# Altium footprint library Tu dien.PcbLib: 68 footprints (part 5 of 5)
Each footprint in its own frame and in the unit in brackets; x right, y up, seen from the top. Pads: shape width x height; smd on the part's side, far side on the other; paste and mask are expansions set on the pad; w line width, h text height; cw(c..) or ccw(c..) is an arc to the next point about the centre after c.
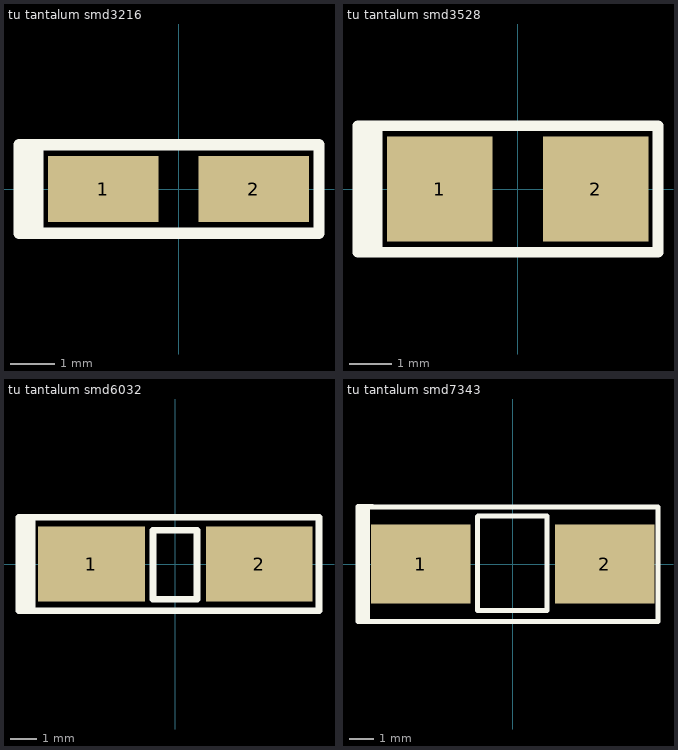
[diagram p4: the footprints below, top view; thin cyan lines are the x and y axes]

## tu tantalum smd3216 [mm]
pads (2):
  rect 2.5x1.5 smd: 1(-1.7,0) 2(1.7,0)
Top Overlay:
  lines w0.254: -3.607,-1 -3.607,1 ; -3.556,-1 3.175,-1 3.175,1 -3.556,1 ; -3.378,-1 -3.378,1 ; -3.175,-1 -3.175,1
3D body "CAP_TANT_3216-18.step": height 1.69, standoff -0.01, extent -1.7,-0.9 1.7,0.9

## tu tantalum smd3528 [mm]
pads (2):
  rect 2.5x2.5 smd: 1(-1.85,0) 2(1.85,0)
Top Overlay:
  lines w0.254: -3.785,-1.5 -3.785,1.5 ; -3.785,-1.499 -3.2,-1.499 ; -3.785,1.499 -3.251,1.499 ; -3.556,-1.5 -3.556,1.5 ; -3.327,-1.5 -3.327,1.5 3.327,1.5 3.327,-1.5 -3.327,-1.5
3D body "CAP_TANT_3528.step": height 2.03, standoff 0, extent -1.85,-1.465 1.85,1.465

## tu tantalum smd6032 [mm]
pads (2):
  rect 4x2.8 smd: 1(-3.15,0) 2(3.15,0)
Top Overlay:
  lines w0.254: -5.867,-1.753 -5.486,-1.753 ; -5.867,-1.75 -5.867,1.75 ; -5.867,1.753 -5.563,1.753 ; -5.613,-1.75 -5.613,1.75 ; -5.563,-1.75 5.385,-1.75 5.385,1.75 -5.563,1.75 ; -5.385,-1.75 -5.385,1.75 ; -0.838,-1.321 0.813,-1.321 0.813,1.27 -0.838,1.27 -0.838,-1.321
3D body "CAP_TANT_6032-28_y.step": height 2.79, standoff -0.01, extent -3.15,-1.75 3.15,1.75

## tu tantalum smd7343 [mm]
pads (2):
  rect 4x3.2 smd: 1(-3.7,0) 2(3.7,0)
Top Overlay:
  lines w0.2: -6.231,2.3 -6.231,-2.311 -5.85,-2.311 ; -6.223,2.311 -5.639,2.311 ; -1.422,1.905 -1.422,-1.88 1.372,-1.88 1.372,1.93 -1.397,1.93 ; -5.85,-2.311 -5.85,2.3 5.85,2.3 5.85,-2.311 -5.85,-2.311
  lines w0.25: -6.053,-2.3 -6.053,2.3
3D body "CAP_TANT_7343-40.step": height 3.99, standoff -0.01, extent -3.749,-2.325 3.851,2.275